# EAGLE library part FAN_40MM (library sc_usercreated)
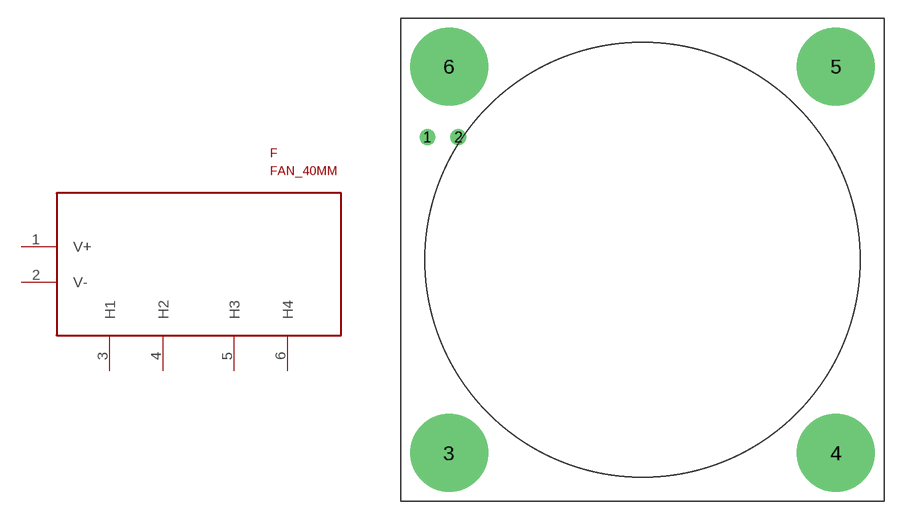
[diagram p6: symbol with the pads of FAN_40MM; footprint FAN_40MM]

Designator prefix F

## FAN_40MM  [FAN_40MM]
1  V+
2  V-
3  H1
4  H2
5  H3
6  H4

## Footprint FAN_40MM (pad centres in mm)
drill 0.8 round: 1 -17.78,10.16; 2 -15.24,10.16
drill 5 pad 6.452 round: 3 -16,-16; 4 16,-16; 5 16,16; 6 -16,16